# Altium schematic symbol library CN_BAT_CLIP.SchLib: 1 symbol
Pins are listed as number, name and electrical type; pins without a type are passive.

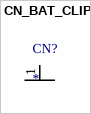
[diagram p0: symbol CN_BAT_CLIP]

## CN_BAT_CLIP
designator CN?
pins: 1